# Altium footprint library SamacSys.PcbLib: 20 footprints (part 1 of 2)
Each footprint in its own frame and in the unit in brackets; x right, y up, seen from the top. Pads: shape width x height; smd on the part's side, far side on the other; paste and mask are expansions set on the pad; w line width, h text height; cw(c..) or ccw(c..) is an arc to the next point about the centre after c.
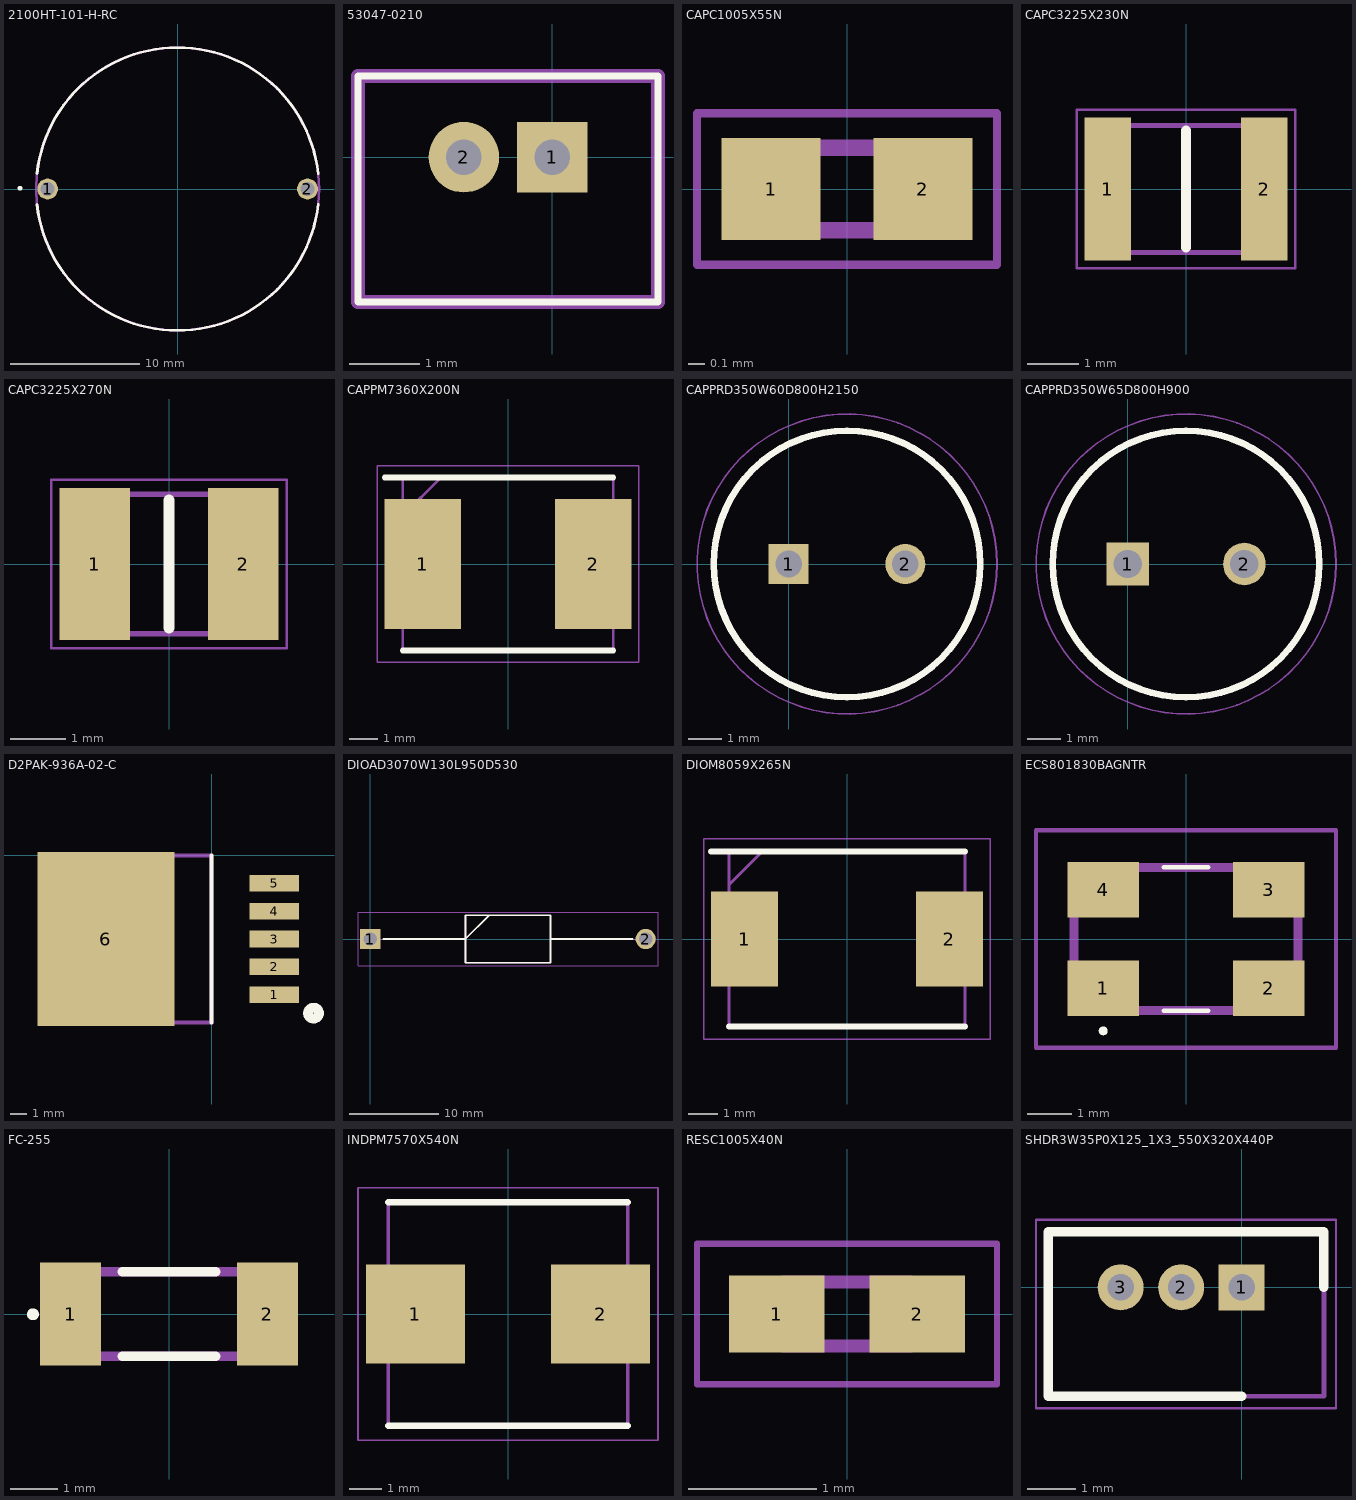
[diagram p0: the footprints below, top view; thin cyan lines are the x and y axes]

## 2100HT-101-H-RC [mm]
pads (2):
  round 1.6 hole 1.064: 1(-10.033,0) 2(10.033,0)
Top Overlay:
  circle w0.2: c-12.162,0.066 r0.082
  lines w0.2: -10.856,-1.199 ccw(c0,0) 10.856,-1.199 ; -10.856,1.199 cw(c0,0) 10.856,1.199
Mechanical 13:
  circle w0.2: c0,0 r10.922

## 53047-0210 [mm]
pads (2):
  rect 1x1 hole 0.5: 1(0,0)
  round 1 hole 0.5: 2(-1.25,0)
Top Overlay:
  lines w0.1: -2.75,-2.05 -2.75,1.15 1.5,1.15 1.5,-2.05 -2.75,-2.05
Mechanical 13:
  lines w0.2: -2.75,-2.05 -2.75,1.15 1.5,1.15 1.5,-2.05 -2.75,-2.05
3D body "53047-0210.stp": height 2.1, standoff -4.3, extent -2.125,-1.6 2.125,1.6

## CAPC1005X55N [mm]
pads (2):
  rect 0.6x0.62 smd: 1(-0.46,0) 2(0.46,0)
Mechanical 13:
  lines w0.1: -0.5,-0.25 0.5,-0.25 0.5,0.25 -0.5,0.25 -0.5,-0.25
Mechanical 15:
  lines w0.05: -0.91,-0.46 0.91,-0.46 0.91,0.46 -0.91,0.46 -0.91,-0.46
3D body "GRM155R71H331KA01D.stp": height 0.55, standoff 0, extent -0.5,-0.25 0.5,0.25

## CAPC3225X230N [mm]
pads (2):
  rect 0.92x2.82 smd: 1(-1.54,0) 2(1.54,0)
Top Overlay:
  lines w0.2: 0,-1.15 0,1.15
Mechanical 13:
  lines w0.1: -1.6,-1.25 -1.6,1.25 1.6,1.25 1.6,-1.25 -1.6,-1.25
Mechanical 15:
  lines w0.05: -2.15,-1.56 -2.15,1.56 2.15,1.56 2.15,-1.56 -2.15,-1.56
3D body "C3225X5R1H106K250AB.stp": height 2.3, standoff 0, extent -1.6,-1.25 1.6,1.25

## CAPC3225X270N [mm]
pads (2):
  rect 1.26x2.72 smd: 1(-1.33,0) 2(1.33,0)
Top Overlay:
  lines w0.2: 0,-1.15 0,1.15
Mechanical 13:
  lines w0.1: -1.6,-1.25 -1.6,1.25 1.6,1.25 1.6,-1.25 -1.6,-1.25
Mechanical 15:
  lines w0.05: -2.11,-1.51 -2.11,1.51 2.11,1.51 2.11,-1.51 -2.11,-1.51
3D body "GRM32ER61A107ME20L.stp": height 2.7, standoff 0, extent -1.6,-1.25 1.6,1.25

## CAPPM7360X200N [mm]
pads (2):
  rect 2.65x4.5 smd: 1(-2.95,0) 2(2.95,0)
Top Overlay:
  lines w0.2: -4.275,3 3.65,3 ; -3.65,-3 3.65,-3
Mechanical 13:
  lines w0.1: -3.65,1.675 -2.325,3 ; -3.65,-3 -3.65,3 3.65,3 3.65,-3 -3.65,-3
Mechanical 15:
  lines w0.05: -4.525,-3.4 -4.525,3.4 4.525,3.4 4.525,-3.4 -4.525,-3.4
3D body "T523H477M016APE0707280.stp": height 2, standoff 0, extent -3.65,-3 3.65,3

## CAPPRD350W60D800H2150 [mm]
pads (2):
  rect 1.2x1.2 hole 0.8: 1(0,0)
  round 1.2 hole 0.8: 2(3.5,0)
Top Overlay:
  circle w0.2: c1.75,0 r4
Mechanical 13:
  circle w0.1: c1.75,0 r4
Mechanical 15:
  circle w0.05: c1.75,0 r4.5
3D body "RNL1C102MDS1KX.stp": height 21.5, standoff -10, extent -2.5,-4.25 6,4.25

## CAPPRD350W65D800H900 [mm]
pads (2):
  rect 1.275x1.275 hole 0.85: 1(0,0)
  round 1.275 hole 0.85: 2(3.5,0)
Top Overlay:
  circle w0.2: c1.75,0 r4
Mechanical 13:
  circle w0.1: c1.75,0 r4
Mechanical 15:
  circle w0.05: c1.75,0 r4.5
3D body "A750KK477M1AAAE016.stp": height 9, standoff -10, extent -2.5,-4.25 6,4.25

## D2PAK-936A-02-C [mm]
pads (6):
  rect 3.05x1.016 smd: 1(3.836,-8.522) 2(3.836,-6.82) 3(3.836,-5.118) 4(3.836,-3.416) 5(3.836,-1.714)
  rect 8.38x10.66 smd: 6(-6.469,-5.118)
Top Overlay:
  circle w0.6: c6.248,-9.66 r0.333
  lines w0.254: 0,-10.236 0,0
Mechanical 13:
  lines w0.254: -9.347,-10.236 0,-10.236 0,0 -9.347,0 -9.347,-10.236

## DIOAD3070W130L950D530 [mm]
pads (2):
  rect 2.25x2.25 hole 1.5: 1(0,0)
  round 2.25 hole 1.5: 2(30.7,0)
Top Overlay:
  lines w0.2: 1.475,0 10.6,0 13.25,2.65 ; 20.1,0 29.225,0 ; 10.6,-2.65 10.6,2.65 20.1,2.65 20.1,-2.65 10.6,-2.65
Mechanical 13:
  lines w0.1: 0,0 10.6,0 13.25,2.65 ; 20.1,0 30.7,0 ; 10.6,-2.65 10.6,2.65 20.1,2.65 20.1,-2.65 10.6,-2.65
Mechanical 15:
  lines w0.05: -1.375,-3 -1.375,3 32.075,3 32.075,-3 -1.375,-3
3D body "1N5822.stp": height 5.3, standoff -5.3, extent -0.645,-2.65 31.35,2.65

## DIOM8059X265N [mm]
pads (2):
  rect 2.25x3.2 smd: 1(-3.45,0) 2(3.45,0)
Top Overlay:
  lines w0.2: -4.575,2.95 3.975,2.95 ; -3.975,-2.95 3.975,-2.95
Mechanical 13:
  lines w0.1: -3.975,1.825 -2.85,2.95 ; -3.975,-2.95 -3.975,2.95 3.975,2.95 3.975,-2.95 -3.975,-2.95
Mechanical 15:
  lines w0.05: -4.825,-3.375 -4.825,3.375 4.825,3.375 4.825,-3.375 -4.825,-3.375
3D body "SS36.stp": height 2.65, standoff 0, extent -3.975,-2.95 3.975,2.95

## ECS801830BAGNTR [mm]
pads (4):
  rect 1.6x1.25 smd: 1(-1.85,-1.1) 2(1.85,-1.1) 3(1.85,1.1) 4(-1.85,1.1)
Top Overlay:
  lines w0.1: -0.5,-1.6 0.5,-1.6 ; -0.5,1.6 0.5,1.6 ; -1.85,-2.1 ccw(c-1.85,-2.05) -1.85,-2 ccw(c-1.85,-2.05) -1.85,-2.1
Mechanical 13:
  lines w0.2: -2.5,-1.6 -2.5,1.6 2.5,1.6 2.5,-1.6 -2.5,-1.6
Mechanical 15:
  lines w0.1: -3.35,-2.425 -3.35,2.425 3.35,2.425 3.35,-2.425 -3.35,-2.425

## FC-255 [mm]
pads (2):
  rect 1.3x2.2 smd: 1(-2.1,0) 2(2.1,0)
Top Overlay:
  circle w0.2: c-2.902,-0.006 r0.027
  lines w0.2: -1,-0.9 1,-0.9 ; -1,0.9 1,0.9
Mechanical 13:
  lines w0.2: -2.45,-0.9 -2.45,0.9 2.45,0.9 2.45,-0.9 -2.45,-0.9

## INDPM7570X540N [mm]
pads (2):
  rect 3.1x3.1 smd: 1(-2.9,0) 2(2.9,0)
Top Overlay:
  lines w0.2: -3.75,-3.5 3.75,-3.5 ; -3.75,3.5 3.75,3.5
Mechanical 13:
  lines w0.1: -3.75,-3.5 -3.75,3.5 3.75,3.5 3.75,-3.5 -3.75,-3.5
Mechanical 15:
  lines w0.05: -4.7,-3.95 -4.7,3.95 4.7,3.95 4.7,-3.95 -4.7,-3.95
3D body "SPM7054VT-101M-D.stp": height 5.4, standoff 0, extent -3.75,-3.5 3.75,3.5

## RESC1005X40N [mm]
pads (2):
  rect 0.75x0.6 smd: 1(-0.55,0) 2(0.55,0)
Mechanical 13:
  lines w0.1: -0.5,-0.25 -0.5,0.25 0.5,0.25 0.5,-0.25 -0.5,-0.25
Mechanical 15:
  lines w0.05: -1.175,-0.55 -1.175,0.55 1.175,0.55 1.175,-0.55 -1.175,-0.55
3D body "CRCW040210K0FKED.stp": height 0.4, standoff 0, extent -0.5,-0.25 0.5,0.25

## SHDR3W35P0X125_1X3_550X320X440P [mm]
pads (3):
  rect 0.95x0.95 hole 0.55: 1(0,0)
  round 0.95 hole 0.55: 2(-1.25,0) 3(-2.5,0)
Top Overlay:
  lines w0.2: 0,-2.25 -4,-2.25 -4,1.15 1.7,1.15 1.7,0
Mechanical 13:
  lines w0.1: -4,-2.25 1.7,-2.25 1.7,1.15 -4,1.15 -4,-2.25
Mechanical 15:
  lines w0.05: -4.25,-2.5 1.95,-2.5 1.95,1.4 -4.25,1.4 -4.25,-2.5
3D body "53047-0310.stp": height 2.1, standoff -4.3, extent -3.849,-2.159 1.651,1.041